# Altium schematic symbol library LM3880.Schlib: 1 symbol
Pins are listed as number, name and electrical type; pins without a type are passive.

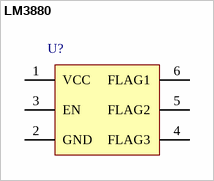
[diagram p0: symbol LM3880]

## LM3880
designator U?  (value not drawn)
Three-Rail Simple Power Sequencer
pins: 1 VCC, 2 GND, 3 EN, 4 FLAG3, 5 FLAG2, 6 FLAG1